# Altium footprint library Microcontroller_ESP.PcbLib: 7 footprints
Each footprint in its own frame and in the unit in brackets; x right, y up, seen from the top. Pads: shape width x height; smd on the part's side, far side on the other; paste and mask are expansions set on the pad; w line width, h text height; cw(c..) or ccw(c..) is an arc to the next point about the centre after c.
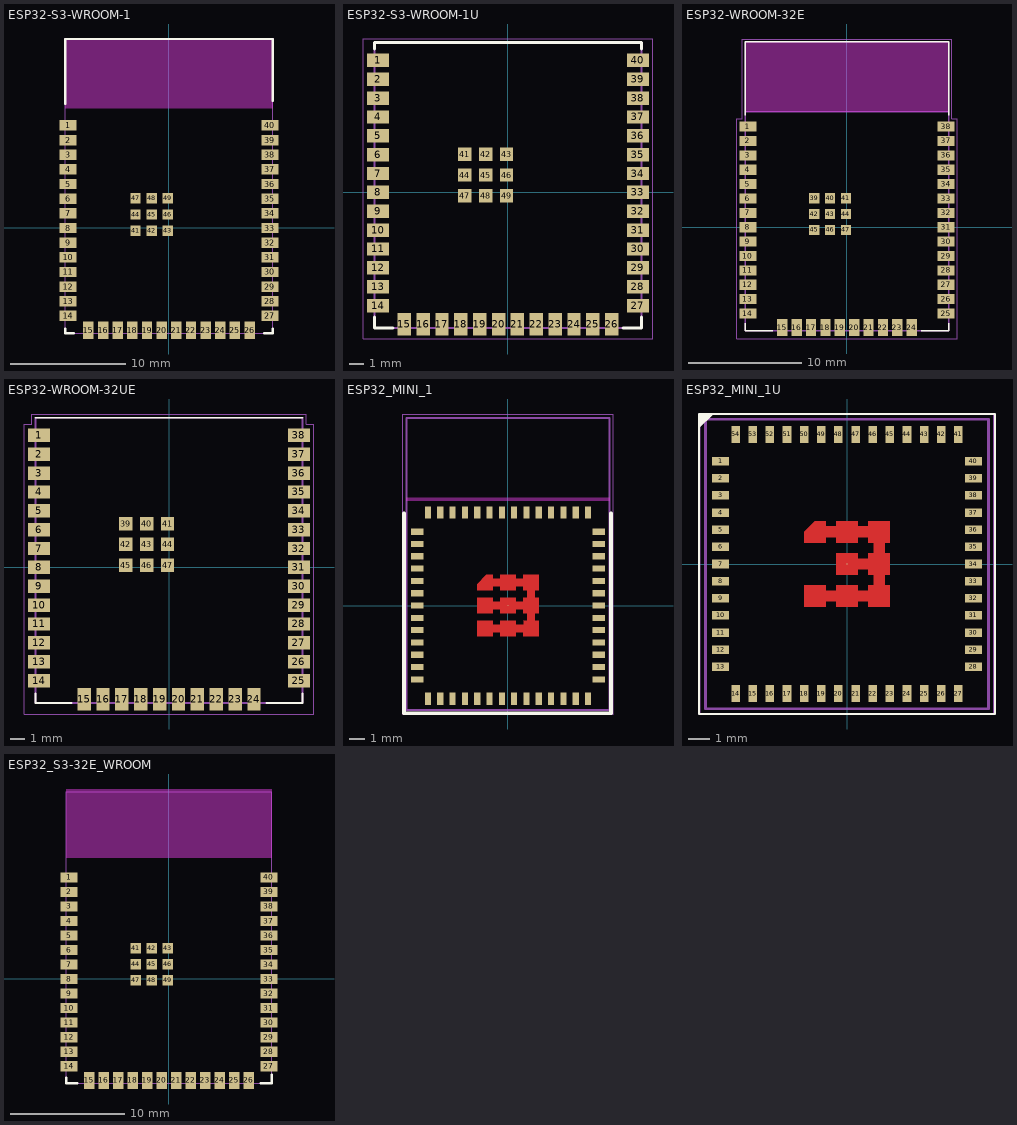
[diagram p0: the footprints below, top view; thin cyan lines are the x and y axes]

## ESP32-S3-WROOM-1 [mm]
pads (49):
  rect 1.5x0.9 smd: 1(-8.75,8.88) 2(-8.75,7.61) 3(-8.75,6.34) 4(-8.75,5.07) 5(-8.75,3.8) 6(-8.75,2.53) 7(-8.75,1.26) 8(-8.75,-0.01) 9(-8.75,-1.28) 10(-8.75,-2.55) 11(-8.75,-3.82) 12(-8.75,-5.09) 13(-8.75,-6.36) 14(-8.75,-7.63) 27(8.75,-7.63) 28(8.75,-6.36) 29(8.75,-5.09) 30(8.75,-3.82) 31(8.75,-2.55) 32(8.75,-1.28) 33(8.75,-0.01) 34(8.75,1.26) 35(8.75,2.53) 36(8.75,3.8) 37(8.75,5.07) 38(8.75,6.34) 39(8.75,7.61) 40(8.75,8.88)
  rect 0.9x1.5 smd: 15(-6.985,-8.88) 16(-5.715,-8.88) 17(-4.445,-8.88) 18(-3.175,-8.88) 19(-1.905,-8.88) 20(-0.635,-8.88) 21(0.635,-8.88) 22(1.905,-8.88) 23(3.175,-8.88) 24(4.445,-8.88) 25(5.715,-8.88) 26(6.985,-8.88)
  rect 0.9x0.9 smd: 41(-2.9,-0.24) 42(-1.5,-0.24) 43(-0.1,-0.24) 44(-2.9,1.16) 45(-1.5,1.16) 46(-0.1,1.16) 47(-2.9,2.56) 48(-1.5,2.56) 49(-0.1,2.56)
Top Overlay:
  lines w0.2: -9,-8.75 -9,-9.13 -8.25,-9.13 ; -9,10.75 -9,16.37 9,16.37 9,11 ; 8.25,-9.13 9,-9.13 9,-8.75
Keep-Out Layer:
  region: 9,10.37 -9,10.37 -9,16.37 9,16.37
  region: 9,10.37 -9,10.37 -9,16.37 9,16.37
Mechanical 13:
  lines w0.1: -9,16.37 -9,-9.13 9,-9.13 9,16.37
  lines w0.2: -9,16.37 9,16.37
  text "ANTENNA" at -4.5,12.87 h1.27
Mechanical 15:
  lines w0.1: -9,-9.13 9,-9.13 9,16.37 -9,16.37 -9,-9.13
3D body "ESP32-WROOM-32E-N4.stp": height 3.2, standoff 0, extent -9.09,-9.24 9.098,16.35

## ESP32-S3-WROOM-1U [mm] "Bluetooth, WiFi 802.11b/g/n, Bluetooth v5.0 Transceiver Module 2.4GHz Antenna Not Included, U.FL Surface Mount"
pads (49):
  rect 1.5x0.9 smd mask+0.051: 1(-8.75,8.88) 2(-8.75,7.61) 3(-8.75,6.34) 4(-8.75,5.07) 5(-8.75,3.8) 6(-8.75,2.53) 7(-8.75,1.26) 8(-8.75,-0.01) 9(-8.75,-1.28) 10(-8.75,-2.55) 11(-8.75,-3.82) 12(-8.75,-5.09) 13(-8.75,-6.36) 14(-8.75,-7.63) 27(8.75,-7.63) 28(8.75,-6.36) 29(8.75,-5.09) 30(8.75,-3.82) 31(8.75,-2.55) 32(8.75,-1.28) 33(8.75,-0.01) 34(8.75,1.26) 35(8.75,2.53) 36(8.75,3.8) 37(8.75,5.07) 38(8.75,6.34) 39(8.75,7.61) 40(8.75,8.88)
  rect 0.9x1.5 smd mask+0.051: 15(-6.985,-8.88) 16(-5.715,-8.88) 17(-4.445,-8.88) 18(-3.175,-8.88) 19(-1.905,-8.88) 20(-0.635,-8.88) 21(0.635,-8.88) 22(1.905,-8.88) 23(3.175,-8.88) 24(4.445,-8.88) 25(5.715,-8.88) 26(6.985,-8.88)
  rect 0.9x0.9 smd mask+0.051: 41(-2.9,2.56) 42(-1.5,2.56) 43(-0.1,2.56) 44(-2.9,1.16) 45(-1.5,1.16) 46(-0.1,1.16) 47(-2.9,-0.24) 48(-1.5,-0.24) 49(-0.1,-0.24)
Top Overlay:
  lines w0.2: -9,-8.4 -9,-9.13 -7.755,-9.13 ; -9,9.65 -9,10.07 9,10.07 9,9.65 ; 7.755,-9.13 9,-9.13 9,-8.4
Mechanical 13:
  lines w0.127: -9,-9.13 9,-9.13 9,10.07 -9,10.07 -9,-9.13
Mechanical 15:
  lines w0.05: -9.75,-9.88 -9.75,10.32 9.75,10.32 9.75,-9.88 -9.75,-9.88
3D body "step_temp.STEP": height 3.35, standoff 0, extent -9,-9.13 9,10.07

## ESP32-WROOM-32E [mm]
pads (47):
  rect 1.5x0.9 smd: 1(-8.75,8.88) 2(-8.75,7.61) 3(-8.75,6.34) 4(-8.75,5.07) 5(-8.75,3.8) 6(-8.75,2.53) 7(-8.75,1.26) 8(-8.75,-0.01) 9(-8.75,-1.28) 10(-8.75,-2.55) 11(-8.75,-3.82) 12(-8.75,-5.09) 13(-8.75,-6.36) 14(-8.75,-7.63) 25(8.75,-7.63) 26(8.75,-6.36) 27(8.75,-5.09) 28(8.75,-3.82) 29(8.75,-2.55) 30(8.75,-1.28) 31(8.75,-0.01) 32(8.75,1.26) 33(8.75,2.53) 34(8.75,3.8) 35(8.75,5.07) 36(8.75,6.34) 37(8.75,7.61) 38(8.75,8.88)
  rect 0.9x1.5 smd: 15(-5.715,-8.88) 16(-4.445,-8.88) 17(-3.175,-8.88) 18(-1.905,-8.88) 19(-0.635,-8.88) 20(0.635,-8.88) 21(1.905,-8.88) 22(3.175,-8.88) 23(4.445,-8.88) 24(5.715,-8.88)
  rect 0.9x0.9 smd: 39(-2.9,2.56) 40(-1.5,2.56) 41(-0.1,2.56) 42(-2.9,1.16) 43(-1.5,1.16) 44(-0.1,1.16) 45(-2.9,-0.24) 46(-1.5,-0.24) 47(-0.1,-0.24)
Top Overlay:
  lines w0.127: -9,-8.48 -9,-9.13 -6.55,-9.13 ; -9,9.87 -9,16.37 9,16.37 9,9.87 ; 6.55,-9.13 9,-9.13 9,-8.48
Keep-Out Layer:
  region: 9,10.18 -9,10.18 -9,16.37 9,16.37
Mechanical 13:
  lines w0.127: -9,10.18 9,10.18 ; -9,10.18 -9,16.37 9,16.37 9,10.18 ; -9,10.18 -9,-9.13 9,-9.13 9,10.18
  text "ANTENNA" at -6,12.62 h1.78
Mechanical 15:
  lines w0.05: -9.75,-9.88 -9.75,9.58 -9.25,9.58 -9.25,16.62 9.25,16.62 9.25,9.58 9.75,9.58 9.75,-9.88 -9.75,-9.88
3D body "step_temp.STEP": height 3.25, standoff 0, extent -9,-9.13 9,16.37

## ESP32-WROOM-32UE [mm]
pads (47):
  rect 1.5x0.9 smd: 1(-8.75,8.88) 2(-8.75,7.61) 3(-8.75,6.34) 4(-8.75,5.07) 5(-8.75,3.8) 6(-8.75,2.53) 7(-8.75,1.26) 8(-8.75,-0.01) 9(-8.75,-1.28) 10(-8.75,-2.55) 11(-8.75,-3.82) 12(-8.75,-5.09) 13(-8.75,-6.36) 14(-8.75,-7.63) 25(8.75,-7.63) 26(8.75,-6.36) 27(8.75,-5.09) 28(8.75,-3.82) 29(8.75,-2.55) 30(8.75,-1.28) 31(8.75,-0.01) 32(8.75,1.26) 33(8.75,2.53) 34(8.75,3.8) 35(8.75,5.07) 36(8.75,6.34) 37(8.75,7.61) 38(8.75,8.88)
  rect 0.9x1.5 smd: 15(-5.71,-8.88) 16(-4.44,-8.88) 17(-3.17,-8.88) 18(-1.9,-8.88) 19(-0.63,-8.88) 20(0.64,-8.88) 21(1.91,-8.88) 22(3.18,-8.88) 23(4.45,-8.88) 24(5.72,-8.88)
  rect 0.9x0.9 smd: 39(-2.9,2.94) 40(-1.5,2.94) 41(-0.1,2.94) 42(-2.9,1.54) 43(-1.5,1.54) 44(-0.1,1.54) 45(-2.9,0.14) 46(-1.5,0.14) 47(-0.1,0.14)
Top Overlay:
  lines w0.127: -9,-8.48 -9,-9.13 -6.55,-9.13 ; -9,10.07 9,10.07 ; 6.55,-9.13 9,-9.13 9,-8.48
Mechanical 13:
  lines w0.127: -9,-9.13 -9,10.07 9,10.07 9,-9.13 -9,-9.13
Mechanical 15:
  lines w0.05: -9.75,-9.88 -9.75,9.62 -9.25,9.62 -9.25,10.32 9.25,10.32 9.25,9.62 9.75,9.62 9.75,-9.88 -9.75,-9.88
3D body "step_temp.STEP": height 3.35, standoff 0, extent -9,-9.13 9,10.07

## ESP32_MINI_1 [mm]
pads (55):
  rect 0.8x0.4 smd: 1(-5.9,4.8) 2(-5.9,4) 3(-5.9,3.2) 4(-5.9,2.4) 5(-5.9,1.6) 6(-5.9,0.8) 7(-5.9,0) 8(-5.9,-0.8) 9(-5.9,-1.6) 10(-5.9,-2.4) 11(-5.9,-3.2) 12(-5.9,-4) 13(-5.9,-4.8) 28(5.9,-4.8) 29(5.9,-4) 30(5.9,-3.2) 31(5.9,-2.4) 32(5.9,-1.6) 33(5.9,-0.8) 34(5.9,0) 35(5.9,0.8) 36(5.9,1.6) 37(5.9,2.4) 38(5.9,3.2) 39(5.9,4) 40(5.9,4.8)
  rect 0.4x0.8 smd: 14(-5.2,-6.05) 15(-4.4,-6.05) 16(-3.6,-6.05) 17(-2.8,-6.05) 18(-2,-6.05) 19(-1.2,-6.05) 20(-0.4,-6.05) 21(0.4,-6.05) 22(1.2,-6.05) 23(2,-6.05) 24(2.8,-6.05) 25(3.6,-6.05) 26(4.4,-6.05) 27(5.2,-6.05) 41(5.2,6.05) 42(4.4,6.05) 43(3.6,6.05) 44(2.8,6.05) 45(2,6.05) 46(1.2,6.05) 47(0.4,6.05) 48(-0.4,6.05) 49(-1.2,6.05) 50(-2,6.05) 51(-2.8,6.05) 52(-3.6,6.05) 53(-4.4,6.05) 54(-5.2,6.05)
  round 0.025 smd: 55(0,0)
Top Layer:
  region: -2,-2 -2,-1 -1,-1 -1,-1.252 -0.497,-1.252 -0.494,-1.255 -0.494,-1.001 0.499,-1.001 0.5,-1 0.5,-1.223 0.514,-1.236 1.014,-1.236 1.014,-1.014 1,-1 1.253,-1 1.254,-1.001 1.254,-0.506 1.259,-0.5 1,-0.5 1,-0.25 0.512,-0.25 0.497,-0.264 0.497,-0.481 0.509,-0.493 -0.508,-0.493 -0.506,-0.491 -0.506,-0.254 -0.516,-0.244 -1.001,-0.244 -1,-0.245 -1,-0.5 -2,-0.5 -2,0.5 -1,0.5 -0.986,0.486 -0.986,0.25 -0.985,0.248 -0.502,0.248 -0.502,0.497 -0.494,0.505 0.491,0.505 0.497,0.499 0.497,0.262 0.517,0.242 0.996,0.242 1,0.246 1,0.5 1.248,0.5 1.252,0.505 1.252,1.001 1.001,1.001 1.001,1.248 1,1.25 0.496,1.25 0.496,1.004 0.5,1 -0.5,1 -0.5,1.25 -0.486,1.264 -0.986,1.264 -0.986,1.014 -1,1 -2,1 -2,1.4 -1.4,2 -1,2 -1,1.75 -0.999,1.751 -0.5,1.751 -0.5,1.999 -0.499,2 0.5,2 0.5,1.748 0.501,1.749 1,1.749 0.998,1.75 0.998,2 0.999,2 2,2 2,1 1.999,0.999 1.747,0.999 1.75,0.996 1.75,0.5 1.751,0.498 2,0.498 2,-0.5 1.749,-0.5 1.749,-0.996 1.744,-1 1.992,-1 2,-1 2,-2 1,-2 1,-1.75 0.51,-1.75 0.501,-1.759 0.501,-1.999 -0.499,-1.999 -0.499,-1.749 -0.486,-1.736 -0.986,-1.736 -0.986,-1.987 -1,-2
Top Overlay:
  lines w0.25: -6.761,-7 -6.761,6 ; -6.75,-7 6.6,-7 6.684,-7 6.684,6
Keep-Out Layer:
  region: 6.6,6.8 -6.6,6.8 -6.6,7 6.6,7
Mechanical 13:
  lines w0.127: -6.6,-6.8 6.6,-6.8 6.6,12.2 -6.6,12.2 -6.6,-6.8
Mechanical 15:
  lines w0.05: -6.85,-7.05 6.85,-7.05 6.85,12.45 -6.85,12.45 -6.85,-7.05
3D body "step_temp.STEP": height 2.68, standoff 0.13, extent -6.6,-6.75 6.6,12.25

## ESP32_MINI_1U [mm]
pads (55):
  rect 0.8x0.4 smd: 1(-5.9,4.8) 2(-5.9,4) 3(-5.9,3.2) 4(-5.9,2.4) 5(-5.9,1.6) 6(-5.9,0.8) 7(-5.9,0) 8(-5.9,-0.8) 9(-5.9,-1.6) 10(-5.9,-2.4) 11(-5.9,-3.2) 12(-5.9,-4) 13(-5.9,-4.8) 28(5.9,-4.8) 29(5.9,-4) 30(5.9,-3.2) 31(5.9,-2.4) 32(5.9,-1.6) 33(5.9,-0.8) 34(5.9,0) 35(5.9,0.8) 36(5.9,1.6) 37(5.9,2.4) 38(5.9,3.2) 39(5.9,4) 40(5.9,4.8)
  rect 0.4x0.8 smd: 14(-5.2,-6.05) 15(-4.4,-6.05) 16(-3.6,-6.05) 17(-2.8,-6.05) 18(-2,-6.05) 19(-1.2,-6.05) 20(-0.4,-6.05) 21(0.4,-6.05) 22(1.2,-6.05) 23(2,-6.05) 24(2.8,-6.05) 25(3.6,-6.05) 26(4.4,-6.05) 27(5.2,-6.05) 41(5.2,6.05) 42(4.4,6.05) 43(3.6,6.05) 44(2.8,6.05) 45(2,6.05) 46(1.2,6.05) 47(0.4,6.05) 48(-0.4,6.05) 49(-1.2,6.05) 50(-2,6.05) 51(-2.8,6.05) 52(-3.6,6.05) 53(-4.4,6.05) 54(-5.2,6.05)
  round 0.025 smd: 55(0,0)
Top Layer:
  region: -2,-2 -1,-2 -1,-1.75 -0.5,-1.75 -0.5,-2 0.5,-2 0.5,-1.75 1,-1.75 1,-2 2,-2 2,-1 1.75,-1 1.75,-0.5 2,-0.5 2,0.5 1.75,0.5 1.75,1 2,1 2,2 1,2 1,1.75 0.5,1.75 0.5,2 -0.5,2 -0.5,1.75 -1,1.75 -1,2 -1.5,2 -2,1.5 -2,1 -1,1 -1,1.25 -0.5,1.25 -0.5,1 0.5,1 0.5,1.25 1,1.25 1,1 1.25,1 1.25,0.5 1,0.5 1,0.25 0.5,0.25 0.5,0.5 -0.5,0.5 -0.5,-0.5 0.5,-0.5 0.5,-0.25 1,-0.25 1,-0.5 1.25,-0.5 1.25,-1 1,-1 1,-1.25 0.5,-1.25 0.5,-1 -0.5,-1 -0.5,-1.25 -1,-1.25 -1,-1 -2,-1
Top Overlay:
  lines w0.1: -6.609,6.917 -6.79,6.735 -6.79,6.835 -6.768,6.858 -6.768,6.862 -6.681,6.862 -6.618,6.926 -6.813,6.926 -6.827,6.94 -6.827,6.903 -6.827,6.849 -6.84,6.835 -6.84,6.717 -6.795,6.672 -6.772,6.672 -6.513,6.931 -6.631,6.931 -6.836,6.726 -6.836,6.576 -6.881,6.531 -6.877,6.531 -6.408,7 -6.3,7 -6.9,6.4 ; -6.9,6.4 -6.9,6.4 ; -6.9,-7 6.9,-7 6.9,7 -6.9,7 -6.9,-7
Mechanical 13:
  lines w0.127: -6.6,-6.75 6.6,-6.75 6.6,6.75 -6.6,6.75 -6.6,-6.75
Mechanical 15:
  lines w0.05: -6.85,-7 6.85,-7 6.85,7 -6.85,7 -6.85,-7
3D body "ESP32-MINI-1U-N4--3DModel-STEP-510211.STEP": height 2.55, standoff 0, extent -6.6,-6.75 6.6,6.75

## ESP32_S3-32E_WROOM [mm]
pads (49):
  rect 1.5x0.9 smd: 1(-8.75,8.88) 2(-8.75,7.61) 3(-8.75,6.34) 4(-8.75,5.07) 5(-8.75,3.8) 6(-8.75,2.53) 7(-8.75,1.26) 8(-8.75,-0.01) 9(-8.75,-1.28) 10(-8.75,-2.55) 11(-8.75,-3.82) 12(-8.75,-5.09) 13(-8.75,-6.36) 14(-8.75,-7.63) 27(8.75,-7.63) 28(8.75,-6.36) 29(8.75,-5.09) 30(8.75,-3.82) 31(8.75,-2.55) 32(8.75,-1.28) 33(8.75,-0.01) 34(8.75,1.26) 35(8.75,2.53) 36(8.75,3.8) 37(8.75,5.07) 38(8.75,6.34) 39(8.75,7.61) 40(8.75,8.88)
  rect 0.9x1.5 smd: 15(-6.985,-8.88) 16(-5.72,-8.88) 17(-4.45,-8.88) 18(-3.18,-8.88) 19(-1.91,-8.88) 20(-0.64,-8.88) 21(0.63,-8.88) 22(1.9,-8.88) 23(3.17,-8.88) 24(4.44,-8.88) 25(5.71,-8.88) 26(6.98,-8.88)
  rect 0.9x0.9 smd: 41(-2.9,2.68) 42(-1.5,2.68) 43(-0.1,2.68) 44(-2.9,1.28) 45(-1.5,1.28) 46(-0.1,1.28) 47(-2.9,-0.12) 48(-1.5,-0.12) 49(-0.1,-0.12)
Top Overlay:
  lines w0.2: -9,-8.63 -9,-9.13 -8,-9.13 ; 8,-9.119 9,-9.119 9,-8.38
Keep-Out Layer:
  region: 9,10.62 -9,10.62 -9,16.62 9,16.62
  region: 9,10.62 -9,10.62 -9,16.62 9,16.62
Mechanical 13:
  lines w0.1: -9,-9.13 -9,16.37 9,16.37 9,-9.13 -9,-9.13
  text "ANTENNA" at -4.5,12.87 h1.27
Mechanical 15:
  lines w0.1: -9,-9.13 -9,16.37 9,16.37 9,-9.13 -9,-9.13
3D body "ESP32-WROOM-32E 3D Model.STEP": height 3.2, standoff 0.1, extent -9,-9.13 9,16.37